# EAGLE library part LIPO-RIDER (library CICERONE Custom)
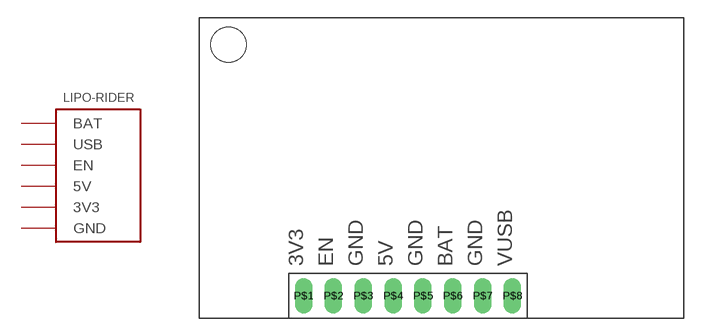
[diagram p1: symbol with the pads of LIPO-RIDER-STAND; footprint LIPO-RIDER-STAND]

Designator prefix LIPO-RIDER

## LIPO-RIDER  [LIPO-RIDER-STAND]
P$1  3V3  sup
P$2  EN  in
P$3  GND  sup
P$4  5V  sup
P$5  GND  sup
P$6  BAT  sup
P$7  GND  sup
P$8  USB  sup

## Footprint LIPO-RIDER-STAND (pad centres in mm)
drill 1 long: P$1 8.89,1.905; P$2 11.43,1.905; P$3 13.97,1.905; P$4 16.51,1.905; P$5 19.05,1.905; P$6 21.59,1.905; P$7 24.13,1.905; P$8 26.67,1.905
hole 3 at 2.5,23.32